# Altium schematic symbol library 2020-01-07_17-53-12.SchLib: 2 symbols
Pins are listed as number, name and electrical type; pins without a type are passive.

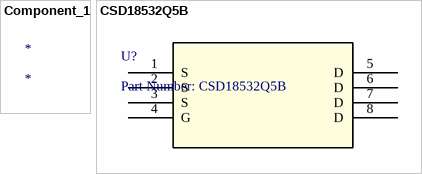
[diagram p0: symbols Component_1 to CSD18532Q5B]

## Component_1
designator *

## CSD18532Q5B
designator U?, comment Part Number: CSD18532Q5B
No Description Available; Vendor: Texas Instruments; Built_By: EMA_UL_Team; Manufacturer_Part_Number: CSD18532Q5B; Copyright: Copyright (C) 2018 Accelerated Designs. All rights reserved; RefDes: RefDes; Type: DEV; Value: Value
footprint DNK8
pins: 1 S, 2 S, 3 S, 4 G, 5 D, 6 D, 7 D, 8 D